# EAGLE library part JPQ-05S- (library jumpers)
Jumper Block
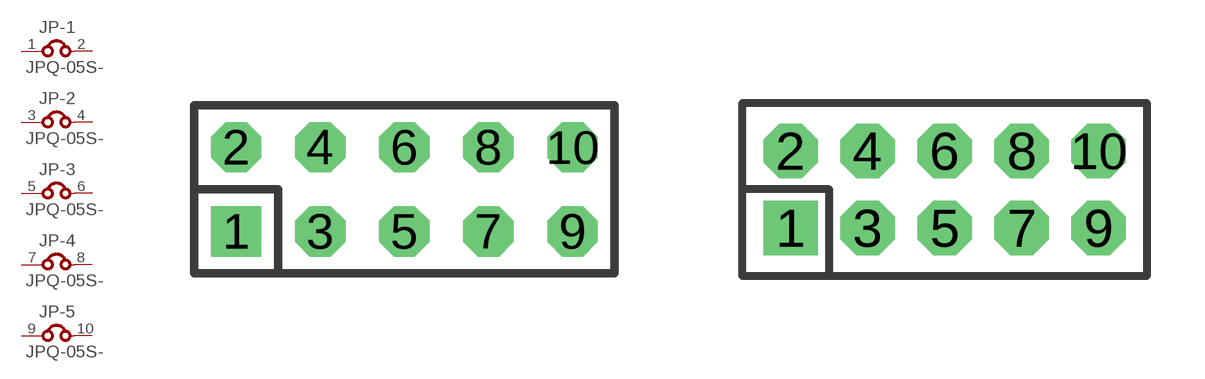
[diagram p2: symbol with the pads of JPQ-05; footprints JPQ-05, JPQ-05M]

Designator prefix JP; gates -1=J -2=J -3=J -4=J -5=J

## JPQ-05S-100  [JPQ-05]
1  -1:1  pas
2  -1:2  pas
3  -2:1  pas
4  -2:2  pas
5  -3:1  pas
6  -3:2  pas
7  -4:1  pas
8  -4:2  pas
9  -5:1  pas
10  -5:2  pas

## JPQ-05S-2MM  [JPQ-05M]
Pads as for JPQ-05

## JPQ-05S-GXC05  [GXC05]
Pads as for JPQ-05

## Footprint JPQ-05 (pad centres in mm)
JUMPER - 0.1" Pitch
drill 1.016 square: 1 -5.08,-1.27
drill 1.016 octagon: 2 -5.08,1.27; 3 -2.54,-1.27; 4 -2.54,1.27; 5 0,-1.27; 6 0,1.27; 7 2.54,-1.27; 8 2.54,1.27; 9 5.08,-1.27; 10 5.08,1.27

## Footprint JPQ-05M (pad centres in mm)
JUMPER - 2.00mm (.079") Pitch
drill 0.914 square: 1 -4,-1
drill 0.914 octagon: 2 -4,1; 3 -2,-1; 4 -2,1; 5 0,-1; 6 0,1; 7 2,-1; 8 2,1; 9 4,-1; 10 4,1

## Footprint GXC05 (pad centres in mm)
SMD HEADER - 0.1", Vertical
smd 1.27 x 5.08: 1 -5.08,-3.175; 2 -5.08,3.175; 3 -2.54,-3.175; 4 -2.54,3.175; 5 0,-3.175; 6 0,3.175; 7 2.54,-3.175; 8 2.54,3.175; 9 5.08,-3.175; 10 5.08,3.175